# EAGLE library part LED_7SEG_AKI_MINI (library mylib_20130829)
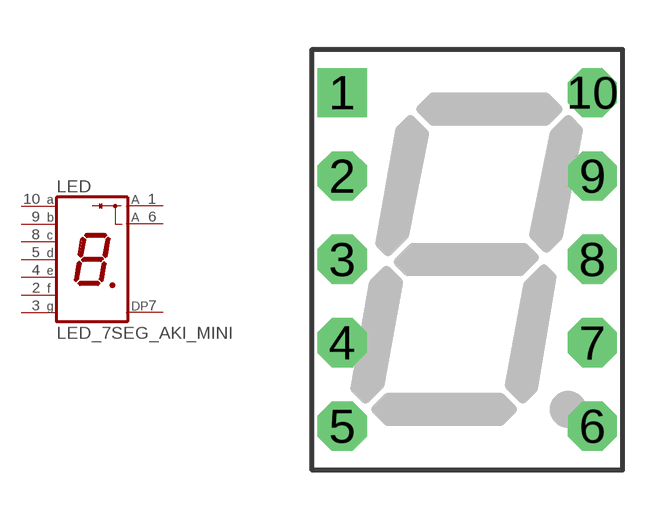
[diagram p44: symbol with the pads of LED_7SEG_AKI_MINI; footprint LED_7SEG_AKI_MINI]

Designator prefix LED

## LED_7SEG_AKI_MINI  [LED_7SEG_AKI_MINI]
1  A  pas
2  F  pas
3  G  pas
4  E  pas
5  D  pas
6  A  pas
7  DP  pas
8  C  pas
9  B  pas
10  A  pas

## Footprint LED_7SEG_AKI_MINI (pad centres in mm)
drill 0.7 pad 1.5 square: 1 -3.81,5.08
drill 0.7 pad 1.5 octagon: 2 -3.81,2.54; 3 -3.81,0; 4 -3.81,-2.54; 5 -3.81,-5.08; 6 3.81,-5.08; 7 3.81,-2.54; 8 3.81,0; 9 3.81,2.54; 10 3.81,5.08